# Altium footprint library Part Footprints.PcbLib: 26 footprints (part 1 of 2)
Each footprint in its own frame and in the unit in brackets; x right, y up, seen from the top. Pads: shape width x height; smd on the part's side, far side on the other; paste and mask are expansions set on the pad; w line width, h text height; cw(c..) or ccw(c..) is an arc to the next point about the centre after c.
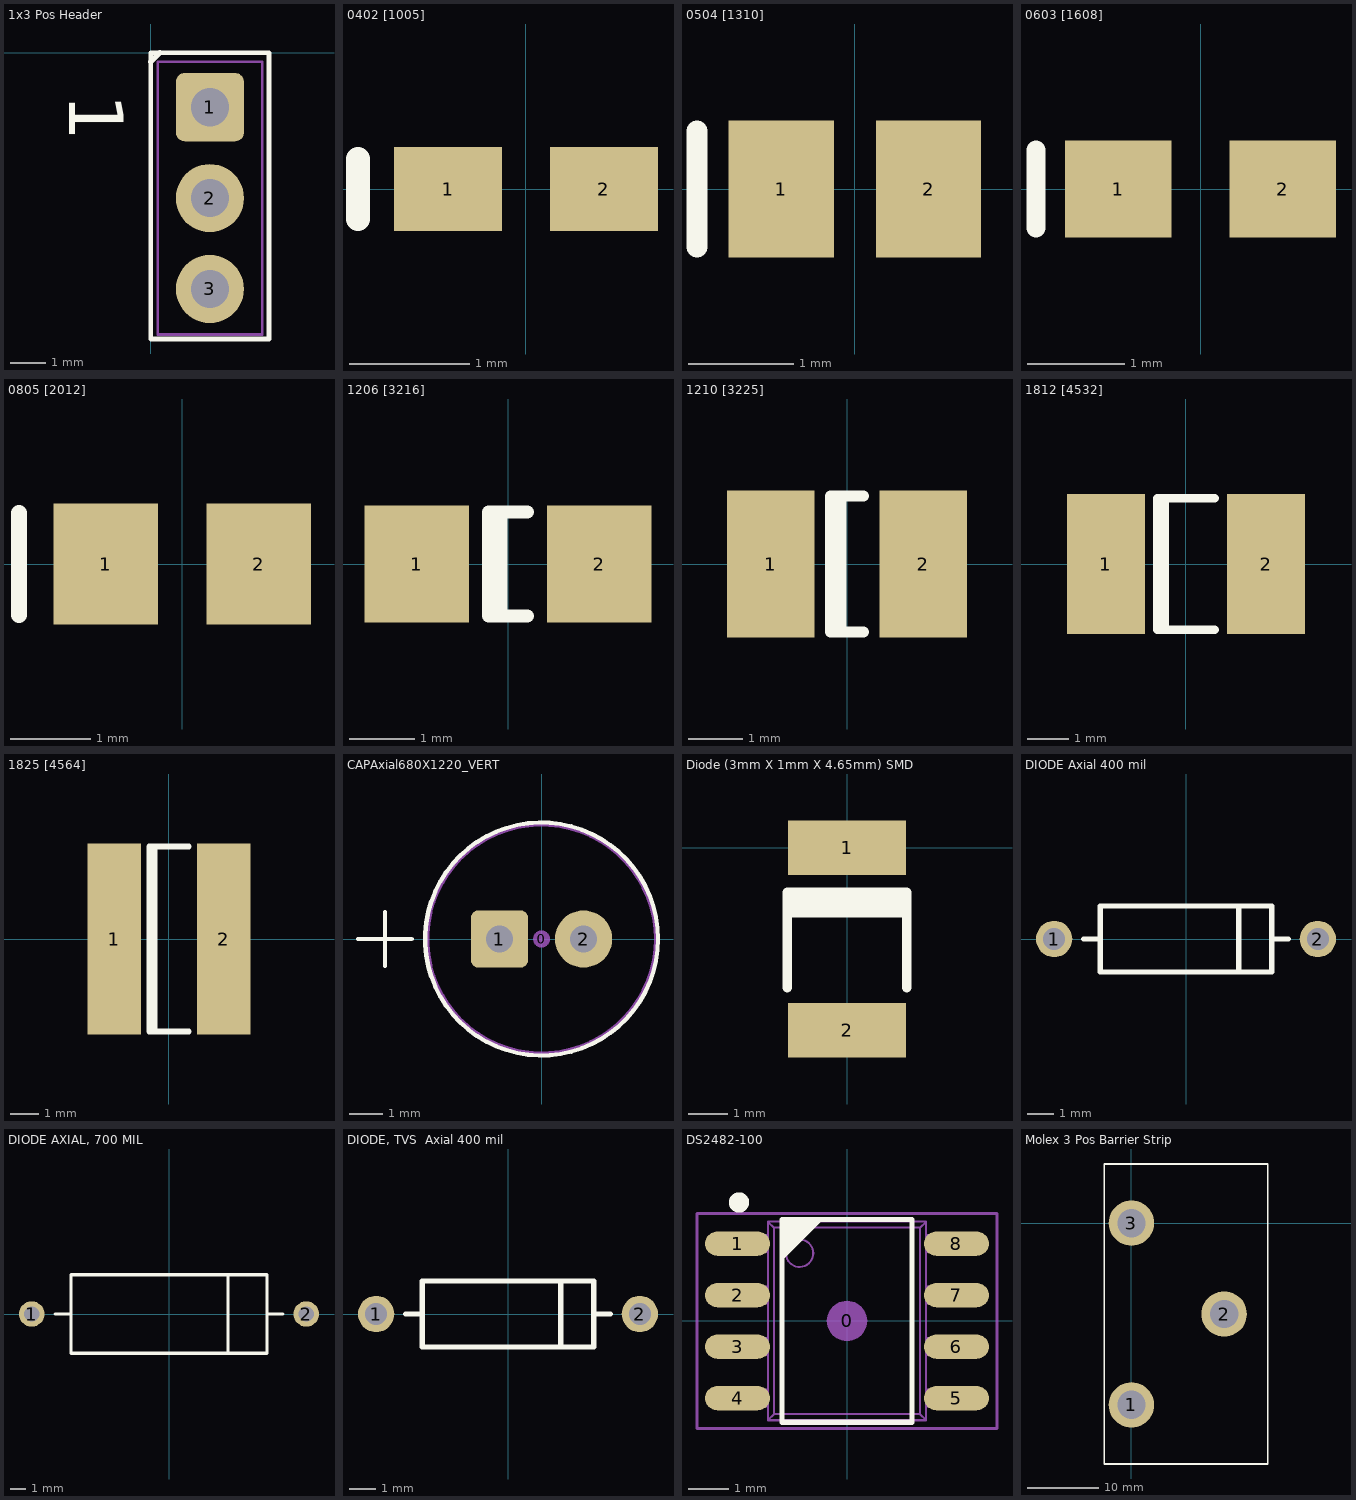
[diagram p0: the footprints below, top view; thin cyan lines are the x and y axes]

## 1x3 Pos Header [mil] "Connector Header, Single-row 3-position, 0.100\" pitch"
pads (3):
  rrect25% 75x75 hole 42: 1(65,-60)
  round 75 hole 42: 2(65,-160) 3(65,-260)
Top Overlay:
  lines w5: 0,-315 0,0 130,0 130,-315 0,-315
  lines w6: 0,-10 10,0
  text "1" at -90,-45 h60
Mechanical 13:
  lines w3: 7.53,-310 7.53,-10 122.49,-10 122.49,-310 7.53,-310
3D body: height 267, standoff -118, extent 7.53,-110 122.49,-10
3D body: height 267, standoff -118, extent 7.53,-210 122.49,-110
3D body: height 267, standoff -118, extent 7.53,-310 122.49,-210

## 0402 [1005] [mm] "Chip Capacitor; Body 1.0 x 0.5 mm (LxW typ)"
height 0.6
pads (2):
  rect 0.9x0.7 smd: 1(-0.65,0) 2(0.65,0)
Top Overlay:
  lines w0.2: -1.4,-0.25 -1.4,0.25

## 0504 [1310] [mm] "Chip Capacitor; Body 1.2 x 1.0 mm (LxW typ)"
height 1.02
pads (2):
  rect 1x1.3 smd: 1(-0.7,0) 2(0.7,0)
Top Overlay:
  lines w0.2: -1.5,-0.55 -1.5,0.55

## 0603 [1608] [mm] "Chip Capacitor; Body 1.6 x 0.8 mm (LxW typ)"
height 0.85
pads (2):
  rect 1.1x1 smd: 1(-0.85,0) 2(0.85,0)
Top Overlay:
  lines w0.2: -1.7,-0.4 -1.7,0.4
3D body: height 0.38, standoff 0, extent -1.143,-0.381 1.143,0.381
3D body: height 0.38, standoff 0, extent 1.143,-0.381 1.27,0.381
3D body: height 0.38, standoff 0, extent -1.27,-0.381 -1.143,0.381

## 0805 [2012] [mm] "Chip Capacitor; Body 2.0 x 1.2 mm (LxW typ)"
height 1.1
pads (2):
  rect 1.3x1.5 smd: 1(-0.95,0) 2(0.95,0)
Top Overlay:
  lines w0.2: -2.032,-0.635 -2.032,0.635
3D body: height 0.38, standoff 0, extent -1.524,-0.635 -1.27,0.635
3D body: height 0.38, standoff 0, extent 1.27,-0.635 1.524,0.635
3D body: height 0.38, standoff 0, extent -1.27,-0.635 1.27,0.635
3D body: height 0.38, standoff 0, extent 1.206,-0.635 1.27,-0.572

## 1206 [3216] [mm] "Chip Capacitor; Body 3.2 x 1.6 mm (LxW typ)"
height 1.35
pads (2):
  rect 1.6x1.8 smd: 1(-1.4,0) 2(1.4,0)
Top Overlay:
  lines w0.2: -0.11,-0.8 -0.11,0.8 ; 0.3,-0.8 -0.3,-0.8 -0.3,0.8 0.3,0.8

## 1210 [3225] [mm] "Chip Capacitor; Body 3.2 x 2.5 mm (LxW typ)"
height 1.35
pads (2):
  rect 1.6x2.7 smd: 1(-1.4,0) 2(1.4,0)
Top Overlay:
  lines w0.2: -0.11,-1.25 -0.11,1.25 ; 0.3,-1.25 -0.3,-1.25 -0.3,1.25 0.3,1.25

## 1812 [4532] [mm] "Chip Capacitor; Body 4.5 x 3.2 mm (LxW typ)"
height 1.35
pads (2):
  rect 1.9x3.4 smd: 1(-1.95,0) 2(1.95,0)
Top Overlay:
  lines w0.2: -0.51,-1.6 -0.51,1.6 ; 0.7,-1.6 -0.7,-1.6 -0.7,1.6 0.7,1.6

## 1825 [4564] [mm] "Chip Capacitor; Body 4.5 x 6.4 mm (LxW typ)"
height 1.1
pads (2):
  rect 1.9x6.8 smd: 1(-1.95,0) 2(1.95,0)
Top Overlay:
  lines w0.2: -0.51,-3.3 -0.51,3.3 ; 0.7,-3.3 -0.7,-3.3 -0.7,3.3 0.7,3.3

## CAPAxial680X1220_VERT [mm] "Capacitor, Polarized Axial"
height 12.2
pads (3):
  round 0.508 on Mech14: 0(0,0)
  rrect25% 1.7x1.7 hole 0.8: 1(-1.25,0)
  round 1.7 hole 0.8: 2(1.25,0)
Top Overlay:
  circle w0.127: c0,0 r3.459
  lines w0.127: -5.45,0 -3.85,0 ; -4.65,-0.8 -4.65,0.8
Mechanical 13:
  circle w0.127: c0,0 r3.4
3D body: height 12.2, standoff -1.78, extent -3.372,-3.372 3.371,3.372

## Diode (3mm X 1mm X 4.65mm) SMD [mm]
pads (2):
  rect 3x1.397 smd: 1(0,0) 2(0,-4.65)
Top Overlay:
  lines w0.254: -1.524,-3.556 -1.524,-1.143 1.524,-1.143 1.524,-3.556 ; -1.524,-1.651 1.524,-1.651 ; -1.397,-1.397 1.524,-1.397
3D body: height 1.02, standoff 0, extent -1.651,-0.889 1.651,-0.508
3D body: height 1.02, standoff 0, extent -1.651,-1.016 1.651,-0.889
3D body: height 1.02, standoff 0, extent -1.651,-4.064 1.651,-1.016
3D body: height 1.02, standoff 0, extent -1.651,-0.508 1.651,0.254
3D body: height 1.02, standoff 0, extent -1.651,-4.762 1.651,-4.064

## DIODE Axial 400 mil [mm] "Diode, Thru-Hole; 2 Leads; 0.4 in Pin Spacing"
height 2.54
pads (2):
  round 1.4 hole 0.85: 1(-5.08,0) 2(5.08,0)
Top Overlay:
  lines w0.2: -3.937,0 -3.302,0 ; 2.032,-1.27 2.032,1.27 ; 3.302,0 3.937,0 ; -3.302,-1.27 -3.302,1.27 3.302,1.27 3.302,-1.27 -3.302,-1.27
3D body: height 2.54, standoff 0, extent -3.429,-1.27 2.159,1.26
3D body: height 2.54, standoff 0, extent 2.159,-1.27 2.667,1.26
3D body: height 2.54, standoff 0, extent 2.667,-1.27 3.429,1.26
3D body: height 1.52, standoff 1.02, extent 3.429,-0.253 5.334,0.253
3D body: height 1.52, standoff 1.02, extent -5.27,-0.252 -3.366,0.254
3D body: height 1.27, standoff -0.76, extent 4.828,-0.253 5.334,0.254
3D body: height 1.27, standoff -0.76, extent -5.332,-0.253 -4.826,0.254

## DIODE AXIAL, 700 MIL [mm] "Diode, Thru-Hole; 2 Leads; 0.7 in Pin Spacing"
height 5.08
pads (2):
  round 1.65 hole 1: 1(-8.89,0) 2(8.89,0)
Top Overlay:
  lines w0.2: -7.366,0 -6.35,0 ; 3.81,-2.54 3.81,2.54 ; 6.35,0 7.366,0 ; -6.35,-2.54 -6.35,2.54 6.35,2.54 6.35,-2.54 -6.35,-2.54

## DIODE, TVS  Axial 400 mil [mm] "Diode, Thru-Hole; 2 Leads; 0.4 in Pin Spacing"
height 2.54
pads (2):
  round 1.4 hole 0.85: 1(-5.08,0) 2(5.08,0)
Top Overlay:
  lines w0.2: -3.937,0 -3.302,0 ; 2.032,-1.27 2.032,1.27 ; 3.302,0 3.937,0 ; -3.302,-1.27 -3.302,1.27 3.302,1.27 3.302,-1.27 -3.302,-1.27
3D body: height 3.55, standoff 0, extent -3.81,-1.778 2.54,1.764
3D body: height 3.55, standoff 0, extent 2.54,-1.778 3.048,1.764
3D body: height 3.55, standoff 0, extent 3.048,-1.778 3.81,1.764

## DS2482-100 [mm]
pads (9):
  round 1 on Mech14: 0(0,0)
  oval 1.6x0.6 smd paste-2: 1(-2.7,1.905) 2(-2.7,0.635) 3(-2.7,-0.635) 4(-2.7,-1.905) 5(2.7,-1.905) 6(2.7,-0.635) 7(2.7,0.635) 8(2.7,1.905)
Top Overlay:
  circle w0.25: c-2.665,2.921 r0.125
  region: -1.6,2.5 -0.6,2.5 -1.6,1.5
  lines w0.127: -1.6,-2.5 1.6,-2.5 1.6,2.5 -1.6,2.5 -1.6,-2.5
Top Paste:
  rectangle: -3.28,1.665 -2.12,2.145
  rectangle: -3.28,0.395 -2.12,0.875
  rectangle: -3.28,-0.875 -2.12,-0.395
  rectangle: -3.28,-2.145 -2.12,-1.665
  rectangle: 2.12,1.665 3.28,2.145
  rectangle: 2.12,0.395 3.28,0.875
  rectangle: 2.12,-0.875 3.28,-0.395
  rectangle: 2.12,-2.145 3.28,-1.665
Mechanical 13:
  circle w0.05: c-1.17,1.67 r0.338
  lines w0.05: -2.631,-2.115 -2.631,-1.695 ; -2.631,-0.845 -2.631,-0.425 ; -2.631,0.425 -2.631,0.845 ; -2.631,1.695 -2.631,2.115 ; -2.543,-2.115 -2.543,-1.695 ; -2.543,-0.845 -2.543,-0.425 ; -2.543,0.425 -2.543,0.845 ; -2.543,1.695 -2.543,2.115 ; -2.403,-2.115 -2.403,-1.695 ; -2.403,-0.845 -2.403,-0.425 ; -2.403,0.425 -2.403,0.845 ; -2.403,1.695 -2.403,2.115 ; -2.113,-2.115 -2.113,-1.695 ; -2.113,-0.845 -2.113,-0.425 ; -2.113,0.425 -2.113,0.845 ; -2.113,1.695 -2.113,2.115 ; -1.95,-2.115 -3,-2.115 -3,-1.695 -1.95,-1.695 ; -1.95,-0.845 -3,-0.845 -3,-0.425 -1.95,-0.425 ; -1.95,0.425 -3,0.425 -3,0.845 -1.95,0.845 ; -1.95,1.695 -3,1.695 -3,2.115 -1.95,2.115 ; 1.95,-2.115 3,-2.115 3,-1.695 1.95,-1.695 ; 1.95,-0.845 3,-0.845 3,-0.425 1.95,-0.425 ; 1.95,0.425 3,0.425 3,0.845 1.95,0.845 ; 1.95,1.695 3,1.695 3,2.115 1.95,2.115 ; 2.113,-2.115 2.113,-1.695 ; 2.113,-0.845 2.113,-0.425 ; 2.113,0.425 2.113,0.845 ; 2.113,1.695 2.113,2.115 ; 2.403,-2.115 2.403,-1.695 ; 2.403,-0.845 2.403,-0.425 ; 2.403,0.425 2.403,0.845 ; 2.403,1.695 2.403,2.115 ; 2.543,-2.115 2.543,-1.695 ; 2.543,-0.845 2.543,-0.425 ; 2.543,0.425 2.543,0.845 ; 2.543,1.695 2.543,2.115 ; 2.631,-2.115 2.631,-1.695 ; 2.631,-0.845 2.631,-0.425 ; 2.631,0.425 2.631,0.845 ; 2.631,1.695 2.631,2.115 ; -1.95,-2.45 -1.801,-2.301 ; -1.95,-2.45 -1.95,2.45 ; -1.95,-2.45 1.95,-2.45 ; -1.95,2.45 1.95,2.45 ; -1.95,2.45 -1.801,2.301 ; -1.801,-2.301 -1.801,2.301 ; -1.801,-2.301 1.801,-2.301 ; -1.801,2.301 1.801,2.301 ; 1.801,-2.301 1.801,2.301 ; 1.801,-2.301 1.95,-2.45 ; 1.801,2.301 1.95,2.45 ; 1.95,-2.45 1.95,2.45
Mechanical 14:
  lines w0.076: -3.7,-2.65 3.7,-2.65 3.7,2.65 -3.7,2.65 -3.7,-2.65
3D body: height 1.75, standoff 0, extent -3,-2.45 3,2.45

## Molex 3 Pos Barrier Strip [mil]
pads (3):
  round 250 hole 156: 1(0,-1000) 2(510,-500) 3(0,0)
Top Overlay:
  lines w10: -150,-1325 -150,325 750,325 750,-1325 -150,-1325
3D body: height 890, standoff -160, extent -125,-1289.99 725,310.01